# Altium footprint library motor21.PcbLib: 21 footprints (part 2 of 2)
Each footprint in its own frame and in the unit in brackets; x right, y up, seen from the top. Pads: shape width x height; smd on the part's side, far side on the other; paste and mask are expansions set on the pad; w line width, h text height; cw(c..) or ccw(c..) is an arc to the next point about the centre after c.
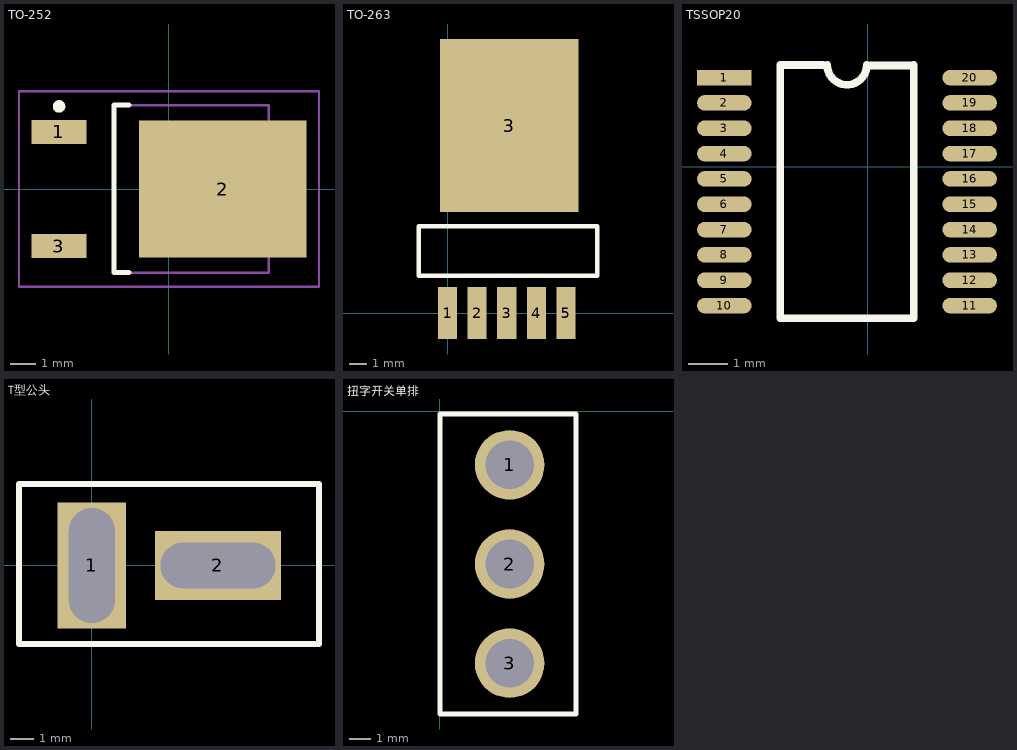
[diagram p1: the footprints below, top view; thin cyan lines are the x and y axes]

## TO-252 [mm] "D-PAK, 4-Leads, Body 6.1x6.5mm, Pitch 2.28mm, Lead Span 9.8mm, IPC Low Density"
height 2.38
pads (3):
  rect 2.2x0.95 smd: 1(-4.4,2.28) 3(-4.4,-2.28)
  rect 6.7x5.5 smd: 2(2.15,0)
Top Overlay:
  circle w0.25: c-4.4,3.305 r0.125
  lines w0.2: -1.6,-3.35 -2.2,-3.35 -2.2,3.35 -1.6,3.35
Mechanical 13:
  lines w0.1: -2.2,-3.35 4,-3.35 4,3.35 -2.2,3.35 -2.2,-3.35
Mechanical 15:
  lines w0.1: -0.5,0 0.5,0 ; 0,-0.5 0,0.5 ; -6,-3.9 6,-3.9 6,3.9 -6,3.9 -6,-3.9
3D body: height 2.39, standoff -0.02, extent -4.9,-3.27 5.038,3.27

## TO-263 [mm]
pads (6):
  rect 1.1x3 smd: 1(0,0) 2(1.71,0) 3(3.42,0) 4(5.13,0) 5(6.84,0)
  rect 8x10 smd: 3(3.556,10.823)
Top Overlay:
  lines w0.254: -1.651,2.159 -1.651,5.004 8.636,5.004 8.636,2.159 -1.651,2.159

## TSSOP20 [mm]
pads (20):
  rect 1.4x0.4 smd: 1(-3.683,2.286)
  oval 1.4x0.4 smd: 2(-3.683,1.636) 3(-3.683,0.986) 4(-3.683,0.336) 5(-3.683,-0.314) 6(-3.683,-0.964) 7(-3.683,-1.614) 8(-3.683,-2.264) 9(-3.683,-2.914) 10(-3.683,-3.564) 11(2.617,-3.564) 12(2.617,-2.914) 13(2.617,-2.264) 14(2.617,-1.614) 15(2.617,-0.964) 16(2.617,-0.314) 17(2.617,0.336) 18(2.617,0.986) 19(2.617,1.636) 20(2.617,2.286)
Top Overlay:
  lines w0.2: -1.143,2.611 -2.248,2.611 -2.248,-3.889 1.182,-3.889 1.182,2.611 ; -1.041,2.611 ccw(c-0.533,2.611) -0.025,2.611 ; 0,2.596 1.105,2.596

## T型公头 [mm]
pads (2):
  rect 3x5.5 hole 2 slot 5 at 90 deg: 1(0,0)
  rect 5.5x3 hole 2 slot 5 at 0 deg: 2(5.5,0)
Top Overlay:
  lines w0.254: -3.175,-3.429 9.906,-3.429 9.906,3.556 -3.175,3.556 -3.175,-3.429

## 扭字开关单排 [mm]
pads (3):
  round 3.3 hole 2.3: 1(3.302,-2.54) 2(3.302,-7.239) 3(3.302,-11.938)
Top Overlay:
  lines w0.254: 0,-14.351 6.452,-14.351 6.452,-0.127 0,-0.127 0,-14.351